# Altium footprint library DPAK_L.PcbLib: 40 footprints (part 2 of 3)
Each footprint in its own frame and in the unit in brackets; x right, y up, seen from the top. Pads: shape width x height; smd on the part's side, far side on the other; paste and mask are expansions set on the pad; w line width, h text height; cw(c..) or ccw(c..) is an arc to the next point about the centre after c.
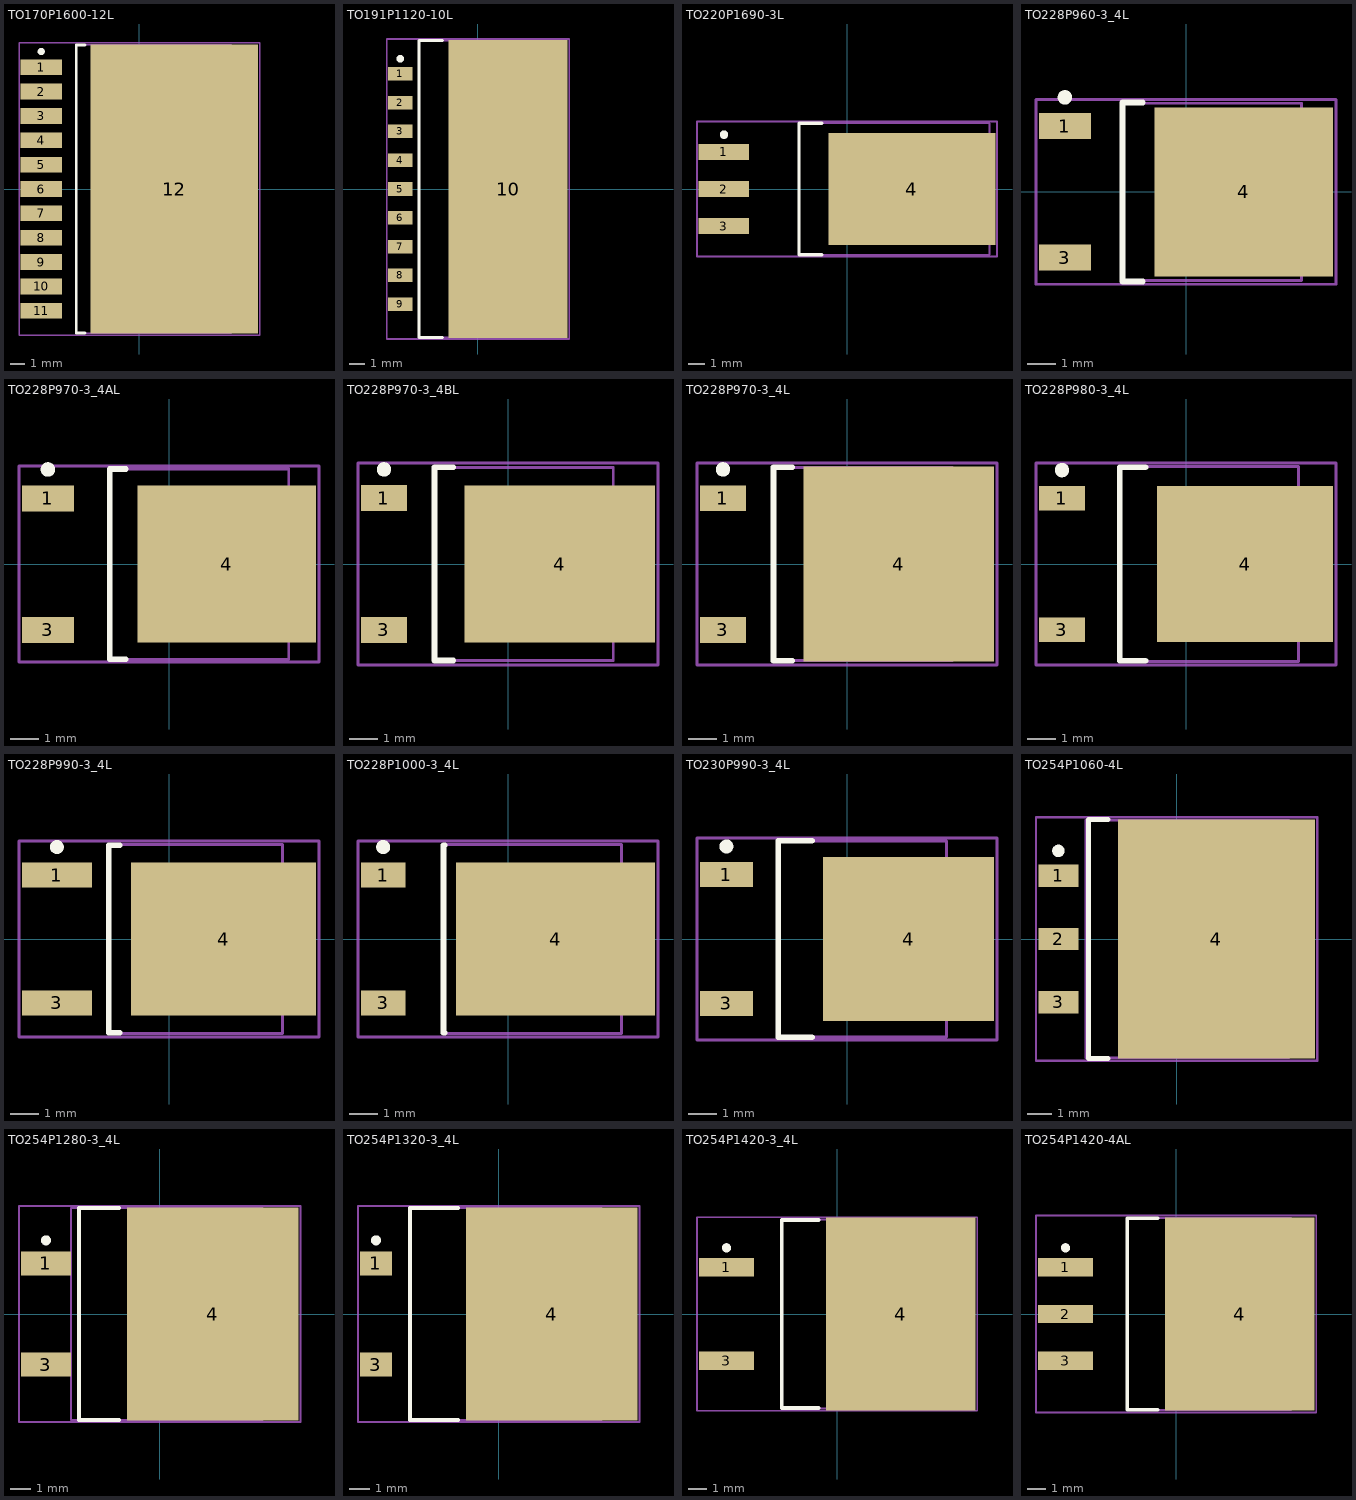
[diagram p1: the footprints below, top view; thin cyan lines are the x and y axes]

## TO170P1600-12L [mm] "TO, 12-Leads, Body 10.7x20mm, Pitch 1.7mm, Lead Span 16mm, IPC High Density"
height 4.65
pads (12):
  rect 2.9x1.1 smd: 1(-6.85,8.5) 2(-6.85,6.8) 3(-6.85,5.1) 4(-6.85,3.4) 5(-6.85,1.7) 6(-6.85,0) 7(-6.85,-1.7) 8(-6.85,-3.4) 9(-6.85,-5.1) 10(-6.85,-6.8) 11(-6.85,-8.5)
  rect 11.7x20.2 smd: 12(2.45,0)
Top Overlay:
  circle w0.25: c-6.85,9.6 r0.125
  lines w0.2: -3.8,-10.05 -4.4,-10.05 -4.4,10.05 -3.8,10.05
Mechanical 13:
  lines w0.1: -4.4,-10.075 6.42,-10.075 6.42,10.075 -4.4,10.075 -4.4,-10.075
Mechanical 15:
  lines w0.1: -0.5,0 0.5,0 ; 0,-0.5 0,0.5 ; -8.4,-10.2 8.4,-10.2 8.4,10.2 -8.4,10.2 -8.4,-10.2
3D body: height 4.65, standoff 0, extent -4.4,-10.075 6.42,10.075

## TO191P1120-10L [mm] "TO, 10-Leads, Body 8.7x19.6mm, Pitch 1.91mm, Lead Span 11.2mm, IPC High Density"
height 2.05
pads (10):
  rect 1.6x0.9 smd: 1(-5.15,7.64) 2(-5.15,5.73) 3(-5.15,3.82) 4(-5.15,1.91) 5(-5.15,0) 6(-5.15,-1.91) 7(-5.15,-3.82) 8(-5.15,-5.73) 9(-5.15,-7.64)
  rect 7.9x19.75 smd: 10(2,0)
Top Overlay:
  circle w0.25: c-5.15,8.64 r0.125
  lines w0.2: -2.35,-9.85 -3.9,-9.85 -3.9,9.85 -2.35,9.85
Mechanical 13:
  lines w0.1: -3.9,-9.85 4.9,-9.85 4.9,9.85 -3.9,9.85 -3.9,-9.85
Mechanical 15:
  lines w0.1: -0.5,0 0.5,0 ; 0,-0.5 0,0.5 ; -6.05,-9.95 6.05,-9.95 6.05,9.95 -6.05,9.95 -6.05,-9.95
3D body: height 2.05, standoff 0, extent -3.9,-9.85 4.9,9.85

## TO220P1690-3L [mm] "Single-Ended SM Package, 3-Leads, Body 10.9x7.6mm, Pitch 2.2mm, Lead Span 16.9mm, IPC High Density"
height 2.7
pads (4):
  rect 3x0.95 smd: 1(-7.3,2.2) 2(-7.3,0) 3(-7.3,-2.2)
  rect 9.9x6.65 smd: 4(3.85,0)
Top Overlay:
  circle w0.25: c-7.3,3.225 r0.125
  lines w0.2: -1.5,-3.9 -2.85,-3.9 -2.85,3.9 -1.5,3.9
Mechanical 13:
  lines w0.1: -2.85,-3.9 8.45,-3.9 8.45,3.9 -2.85,3.9 -2.85,-3.9
Mechanical 15:
  lines w0.1: -0.5,0 0.5,0 ; 0,-0.5 0,0.5 ; -8.9,-4 8.9,-4 8.9,4 -8.9,4 -8.9,-4
3D body: height 2.7, standoff 0, extent -2.85,-3.9 8.45,3.9

## TO228P960-3_4L [mm] "D-PAK, 4-Leads, Body 6.1x6mm, Pitch 2.28mm, Lead Span 9.7mm, IPC High Density"
height 2.03
pads (3):
  rect 1.8x0.9 smd: 1(-4.2,2.28) 3(-4.2,-2.28)
  rect 6.2x5.85 smd: 4(2,0)
Top Overlay:
  circle w0.25: c-4.2,3.28 r0.125
  lines w0.2: -1.5,-3.1 -2.2,-3.1 -2.2,3.1 -1.5,3.1
Mechanical 13:
  lines w0.1: -2.2,-3.075 4,-3.075 4,3.075 -2.2,3.075 -2.2,-3.075
Mechanical 15:
  lines w0.1: -0.5,0 0.5,0 ; 0,-0.5 0,0.5 ; -5.2,-3.2 5.2,-3.2 5.2,3.2 -5.2,3.2 -5.2,-3.2
3D body: height 2.03, standoff 0, extent -2.2,-3.075 4,3.075

## TO228P970-3_4AL [mm] "D-PAK, 4-Leads, Body 6.1x6.5mm, Pitch 2.28mm, Lead Span 9.7mm, IPC High Density"
height 2.4
pads (3):
  rect 1.8x0.9 smd: 1(-4.2,2.28) 3(-4.2,-2.28)
  rect 6.2x5.45 smd: 4(2,0)
Top Overlay:
  circle w0.25: c-4.2,3.28 r0.125
  lines w0.2: -1.5,-3.3 -2.05,-3.3 -2.05,3.3 -1.5,3.3
Mechanical 13:
  lines w0.1: -2.05,-3.3 -2.05,3.3 4.15,3.3 4.15,-3.3 -2.05,-3.3
Mechanical 15:
  lines w0.1: -0.5,0 0.5,0 ; 0,-0.5 0,0.5 ; -5.2,-3.4 -5.2,3.4 5.2,3.4 5.2,-3.4 -5.2,-3.4
3D body: height 2.4, standoff 0, extent -2.05,-3.3 4.15,3.3

## TO228P970-3_4BL [mm] "D-PAK, 4-Leads, Body 6.1x6.6mm, Pitch 2.29mm, Lead Span 9.7mm, IPC High Density"
height 2.38
pads (3):
  rect 1.6x0.9 smd: 1(-4.3,2.28) 3(-4.3,-2.28)
  rect 6.6x5.45 smd: 4(1.8,0)
Top Overlay:
  circle w0.25: c-4.3,3.28 r0.125
  lines w0.2: -1.9,-3.35 -2.55,-3.35 -2.55,3.35 -1.9,3.35
Mechanical 13:
  lines w0.1: -2.55,-3.35 -2.55,3.35 3.65,3.35 3.65,-3.35 -2.55,-3.35
Mechanical 15:
  lines w0.1: -0.5,0 0.5,0 ; 0,-0.5 0,0.5 ; -5.2,-3.5 -5.2,3.5 5.2,3.5 5.2,-3.5 -5.2,-3.5
3D body: height 2.38, standoff 0, extent -2.549,-3.349 3.649,3.349

## TO228P970-3_4L [mm] "D-PAK, 4-Leads, Body 6.1x6.5mm, Pitch 2.28mm, Lead Span 9.7mm, IPC High Density"
height 2.38
pads (3):
  rect 1.6x0.9 smd: 1(-4.3,2.28) 3(-4.3,-2.28)
  rect 6.6x6.75 smd: 4(1.8,0)
Top Overlay:
  circle w0.25: c-4.3,3.28 r0.125
  lines w0.2: -1.9,-3.35 -2.55,-3.35 -2.55,3.35 -1.9,3.35
Mechanical 13:
  lines w0.1: -2.55,-3.35 -2.55,3.35 3.65,3.35 3.65,-3.35 -2.55,-3.35
Mechanical 15:
  lines w0.1: -0.5,0 0.5,0 ; 0,-0.5 0,0.5 ; -5.2,-3.5 -5.2,3.5 5.2,3.5 5.2,-3.5 -5.2,-3.5
3D body: height 2.38, standoff 0, extent -2.55,-3.35 3.65,3.35

## TO228P980-3_4L [mm] "D-PAK, 4-Leads, Body 6.1x6.6mm, Pitch 2.28mm, Lead Span 9.8mm, IPC High Density"
height 2.38
pads (3):
  rect 1.6x0.85 smd: 1(-4.3,2.28) 3(-4.3,-2.28)
  rect 6.1x5.4 smd: 4(2.05,0)
Top Overlay:
  circle w0.25: c-4.3,3.255 r0.125
  lines w0.2: -1.4,-3.35 -2.3,-3.35 -2.3,3.35 -1.4,3.35
Mechanical 13:
  lines w0.1: -2.3,-3.375 3.9,-3.375 3.9,3.375 -2.3,3.375 -2.3,-3.375
Mechanical 15:
  lines w0.1: -0.5,0 0.5,0 ; 0,-0.5 0,0.5 ; -5.2,-3.5 5.2,-3.5 5.2,3.5 -5.2,3.5 -5.2,-3.5
3D body: height 2.38, standoff 0, extent -2.3,-3.375 3.9,3.375

## TO228P990-3_4L [mm] "D-PAK, 4-Leads, Body 6.1x6.5mm, Pitch 2.28mm, Lead Span 9.9mm, IPC High Density"
height 2.39
pads (3):
  rect 2.5x0.9 smd: 1(-4,2.28) 3(-4,-2.28)
  rect 6.6x5.45 smd: 4(1.95,0)
Top Overlay:
  circle w0.25: c-4,3.28 r0.125
  lines w0.2: -1.75,-3.35 -2.15,-3.35 -2.15,3.35 -1.75,3.35
Mechanical 13:
  lines w0.1: -2.15,-3.375 4.05,-3.375 4.05,3.375 -2.15,3.375 -2.15,-3.375
Mechanical 15:
  lines w0.1: -0.5,0 0.5,0 ; 0,-0.5 0,0.5 ; -5.35,-3.5 5.35,-3.5 5.35,3.5 -5.35,3.5 -5.35,-3.5
3D body: height 2.39, standoff 0, extent -2.15,-3.375 4.05,3.375

## TO228P1000-3_4L [mm] "D-PAK, 4-Leads, Body 6.2x6.5mm, Pitch 2.28mm, Lead Span 9.9mm, IPC High Density"
height 2.39
pads (3):
  rect 1.6x0.9 smd: 1(-4.45,2.28) 3(-4.45,-2.28)
  rect 7.1x5.45 smd: 4(1.7,0)
Top Overlay:
  circle w0.25: c-4.45,3.28 r0.125
  lines w0.2: -2.25,-3.35 -2.3,-3.35 -2.3,3.35 -2.25,3.35
Mechanical 13:
  lines w0.1: -2.3,-3.375 4.05,-3.375 4.05,3.375 -2.3,3.375 -2.3,-3.375
Mechanical 15:
  lines w0.1: -0.5,0 0.5,0 ; 0,-0.5 0,0.5 ; -5.35,-3.5 5.35,-3.5 5.35,3.5 -5.35,3.5 -5.35,-3.5
3D body: height 2.39, standoff 0, extent -2.3,-3.375 4.05,3.375

## TO230P990-3_4L [mm] "D-PAK, 4-Leads, Body 6x7mm, Pitch 2.3mm, Lead Span 9.9mm, IPC High Density"
height 2.8
pads (3):
  rect 1.9x0.9 smd: 1(-4.3,2.3) 3(-4.3,-2.3)
  rect 6.1x5.85 smd: 4(2.2,0)
Top Overlay:
  circle w0.25: c-4.3,3.3 r0.125
  lines w0.2: -1.25,-3.5 -2.45,-3.5 -2.45,3.5 -1.25,3.5
Mechanical 13:
  lines w0.1: -2.45,-3.5 3.55,-3.5 3.55,3.5 -2.45,3.5 -2.45,-3.5
Mechanical 15:
  lines w0.1: -0.5,0 0.5,0 ; 0,-0.5 0,0.5 ; -5.35,-3.6 5.35,-3.6 5.35,3.6 -5.35,3.6 -5.35,-3.6
3D body: height 2.8, standoff 0, extent -2.45,-3.5 3.55,3.5

## TO254P1060-4L [mm] "D-PAK, 4-Leads, Body 8x9.4mm, Pitch 2.54mm, Lead Span 10.6mm, IPC High Density"
height 2.05
pads (4):
  rect 1.6x0.9 smd: 1(-4.75,2.54) 2(-4.75,0) 3(-4.75,-2.54)
  rect 7.9x9.6 smd: 4(1.6,0)
Top Overlay:
  circle w0.25: c-4.75,3.54 r0.125
  lines w0.2: -2.75,-4.8 -3.55,-4.8 -3.55,4.8 -2.75,4.8
Mechanical 13:
  lines w0.1: -3.65,-4.775 4.5,-4.775 4.5,4.775 -3.65,4.775 -3.65,-4.775
Mechanical 15:
  lines w0.1: -0.5,0 0.5,0 ; 0,-0.5 0,0.5 ; -5.65,-4.9 5.65,-4.9 5.65,4.9 -5.65,4.9 -5.65,-4.9
3D body: height 2.05, standoff 0, extent -3.65,-4.775 4.5,4.775

## TO254P1280-3_4L [mm] "TO, 4-Leads, Body 9.6x10.2mm, Pitch 2.54mm, Lead Span 12.8mm, IPC High Density"
height 5.1
pads (3):
  rect 2.5x1.2 smd: 1(-5.7,2.54) 3(-5.7,-2.54)
  rect 8.6x10.65 smd: 4(2.65,0)
Top Overlay:
  circle w0.25: c-5.7,3.69 r0.125
  lines w0.2: -2.05,-5.3 -4.05,-5.3 -4.05,5.3 -2.05,5.3
Mechanical 13:
  lines w0.1: -4.45,-5.3 5.15,-5.3 5.15,5.3 -4.45,5.3 -4.45,-5.3
Mechanical 15:
  lines w0.1: -0.5,0 0.5,0 ; 0,-0.5 0,0.5 ; -7.05,-5.4 7.05,-5.4 7.05,5.4 -7.05,5.4 -7.05,-5.4
3D body: height 5.1, standoff 0, extent -4.45,-5.3 5.15,5.3

## TO254P1320-3_4L [mm] "TO, 4-Leads, Body 9.6x10.2mm, Pitch 2.54mm, Lead Span 13.2mm, IPC High Density"
height 5.1
pads (3):
  rect 1.6x1.2 smd: 1(-6.15,2.54) 3(-6.15,-2.54)
  rect 8.6x10.65 smd: 4(2.65,0)
Top Overlay:
  circle w0.25: c-6.15,3.69 r0.125
  lines w0.2: -2.05,-5.3 -4.45,-5.3 -4.45,5.3 -2.05,5.3
Mechanical 13:
  lines w0.1: -4.45,-5.3 5.15,-5.3 5.15,5.3 -4.45,5.3 -4.45,-5.3
Mechanical 15:
  lines w0.1: -0.5,0 0.5,0 ; 0,-0.5 0,0.5 ; -7.05,-5.4 7.05,-5.4 7.05,5.4 -7.05,5.4 -7.05,-5.4
3D body: height 5.1, standoff 0, extent -4.45,-5.3 5.15,5.3

## TO254P1420-3_4L [mm] "D2-PAK, 4-Leads, Body 9.2x10mm, Pitch 2.54mm, Lead Span 14.2mm, IPC High Density"
height 4.57
pads (3):
  rect 3x1 smd: 1(-6,2.54) 3(-6,-2.54)
  rect 8.1x10.45 smd: 4(3.45,0)
Top Overlay:
  circle w0.25: c-6,3.59 r0.125
  lines w0.2: -1,-5.1 -3,-5.1 -3,5.1 -1,5.1
Mechanical 13:
  lines w0.1: -3,-5.125 6.35,-5.125 6.35,5.125 -3,5.125 -3,-5.125
Mechanical 15:
  lines w0.1: -0.5,0 0.5,0 ; 0,-0.5 0,0.5 ; -7.6,-5.25 7.6,-5.25 7.6,5.25 -7.6,5.25 -7.6,-5.25
3D body: height 4.57, standoff 0, extent -3,-5.125 6.35,5.125

## TO254P1420-4AL [mm] "D2-PAK, 4-Leads, Body 8.6x10.2mm, Pitch 2.54mm, Lead Span 14.2mm, IPC High Density"
height 4.64
pads (4):
  rect 3x1 smd: 1(-6,2.54) 2(-6,0) 3(-6,-2.54)
  rect 8.1x10.45 smd: 4(3.45,0)
Top Overlay:
  circle w0.25: c-6,3.59 r0.125
  lines w0.2: -1,-5.2 -2.65,-5.2 -2.65,5.2 -1,5.2
Mechanical 13:
  lines w0.1: -2.65,-5.2 6.24,-5.2 6.24,5.2 -2.65,5.2 -2.65,-5.2
Mechanical 15:
  lines w0.1: -0.5,0 0.5,0 ; 0,-0.5 0,0.5 ; -7.6,-5.35 7.6,-5.35 7.6,5.35 -7.6,5.35 -7.6,-5.35
3D body: height 4.64, standoff 0, extent -2.649,-5.199 6.239,5.199